# Altium schematic symbol library Modules.SchLib: 1 symbol
Pins are listed as number, name and electrical type; pins without a type are passive.

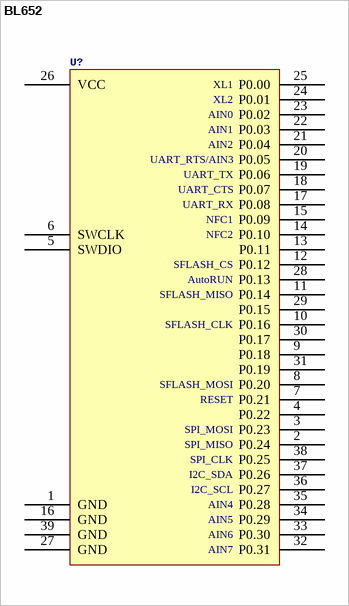
[diagram p0: symbol BL652]

## BL652
designator U?
nRF52 Module; GateName_1: G$1; SymbolName_1: BL652; LibraryName: Modules; DeviceSetName: BL652; Package: BL652
footprint BL652
pins: 1 GND (power), 2 P0.24, 3 P0.23, 4 P0.22, 5 SWDIO, 6 SWCLK, 7 P0.21, 8 P0.20, 9 P0.18, 10 P0.16, 11 P0.14, 12 P0.12, 13 P0.11, 14 P0.10, 15 P0.09, 16 GND (power), 17 P0.08, 18 P0.07, 19 P0.06, 20 P0.05, 21 P0.04, 22 P0.03, 23 P0.02, 24 P0.01, 25 P0.00, 26 VCC (power), 27 GND (power), 28 P0.13, 29 P0.15, 30 P0.17, 31 P0.19, 32 P0.31, 33 P0.30, 34 P0.29, 35 P0.28, 36 P0.27, 37 P0.26, 38 P0.25, 39 GND (power)
text: XL1; XL2; AIN0; AIN1; AIN2; UART_RTS/AIN3; UART_TX; UART_CTS; UART_RX; NFC1; NFC2; SFLASH_CS; AutoRUN; SFLASH_MISO; SFLASH_CLK; SFLASH_MOSI; RESET; SPI_MOSI; SPI_MISO; SPI_CLK; I2C_SDA; I2C_SCL; AIN4; AIN5; AIN6; AIN7